# Altium integrated library TI Power Management Power Modules.IntLib: 831 symbols (part 28 of 44)
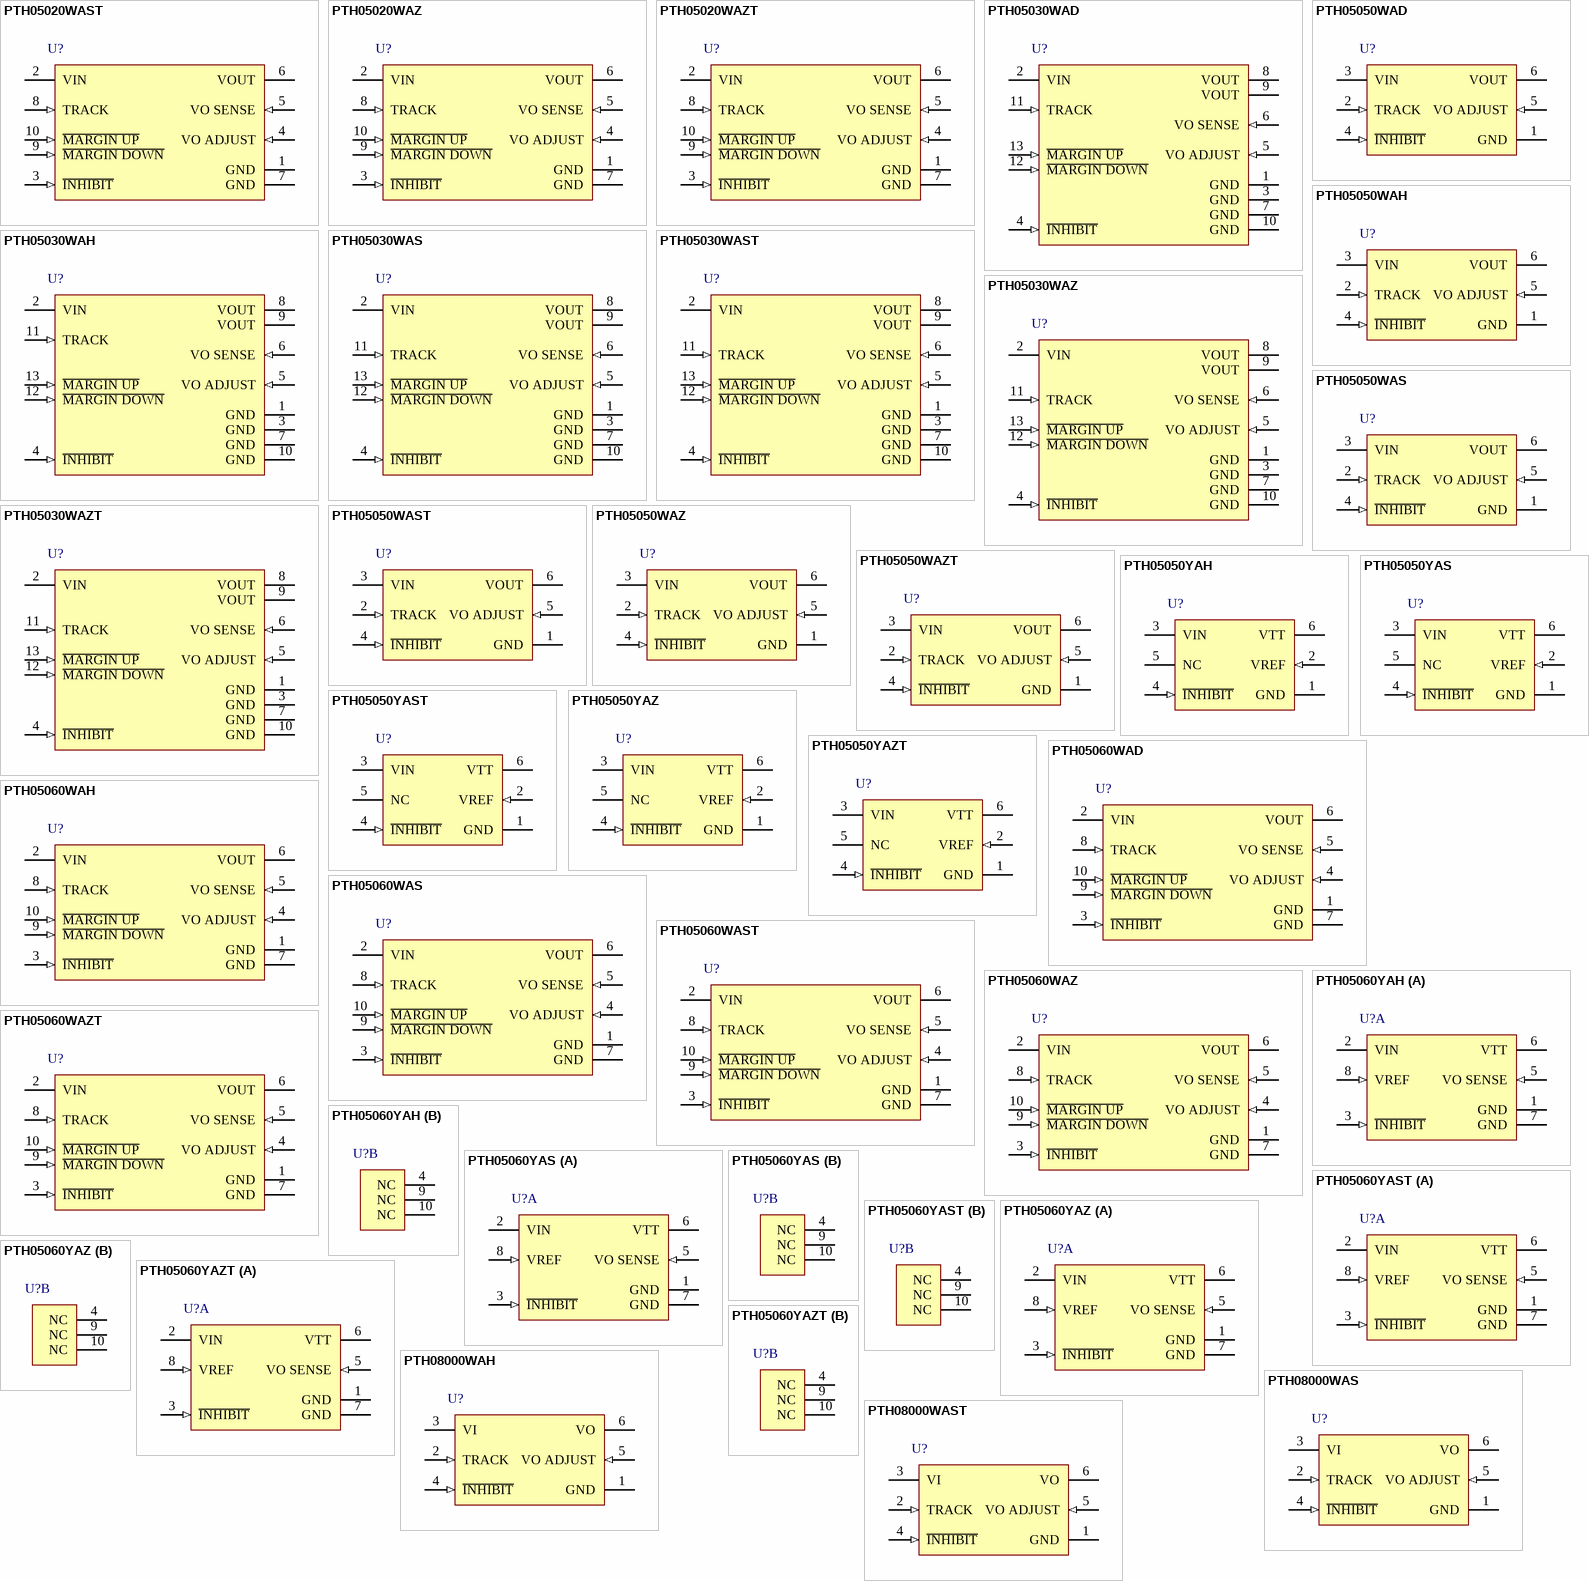
[diagram p50: symbols PTH05020WAST to PTH08000WAST]

## PTH05060WAS
designator U?
10 A, 5 V Input Non-Isolated Wide Adjust Module, -40 to 85 degC, 10-pin Module (EUY10); Manufacturer: Texas Instruments; PartNumber: PTH05060WAS; Eco-Plan: TBD; Iout(Max)(A): 10; Regulated Outputs(#): 1; SubFamily: Non-Isolated POL; Vin(Max)(V): 5.5; Vin(Min)(V): 4.5; VO Adjustable: TRUE; Vout(Max)(V): 3.6; Vout(Min)(V): 0.8; DatasheetVersion: SLTS216B; PackageVersion: 4205249-3/B; PackageReference: EUY10; PackageDescription: 10-Pin Plastic Special Shape, Body 15.75 x 25.27 mm; Supplier 1: Digi-Key; Supplier Part Number 1: 296-20421-ND; Supplier 2: Newark; Supplier Part Number 2: 90H3325; Supplier 3: Mouser; Supplier Part Number 3: 595-PTH05060WAS; Mounting Technology: Surface Mount; ComponentLink1Description: Manufacturer URL; ComponentLink1URL: http://www.ti.com/; ComponentLink2Description: Datasheet; ComponentLink2URL: http://www.ti.com/general/docs/lit/getliterature.tsp?genericPartNumber=PTH05060W&fileType=pdf; ComponentLink3Description: Package Specification; ComponentLink3URL: http://www.ti.com/lit/ml/mpds145a/mpds145a.pdf; ComponentLink4Description: URL Link1; ComponentLink4URL: Samples URL:http://www.ti.com/product/pth05060w#samples
footprint TI-EUY10_V (Module, 10-Leads, Body 25.27x15.75mm)
pins: 1 GND (power) "This is the common ground connection for the Vin and Vout power connections. It is also the 0 VDC reference for the control inputs", 2 VIN (power) "The positive input voltage power node to the module, which is referenced to common GND.", 3 ~{INHIBIT} (in) "The Inhibit pin is an open-collector/drain negative logic input that is referenced to GND. Applying a lowlevel ground signal to this input disables the module’s output and turns off the output voltage. When the Inhibit (See Datasheet)", 4 VO ADJUST (in) "A 0.1 W 1 % resistor must be directly connected between this pin and pin 7 (GND) to set the output voltage to a value higher than 0.8 V. The temperature stability of the resistor should be 100 ppm/degreesC (or better). The (See Datasheet)", 5 VO SENSE (in) "The sense input allows the regulation circuit to compensate for voltage drop between the module and the load. For optimal voltage accuracy Vo Sense should be connected to Vout. It can also be left disconnected.", 6 VOUT (power) "The regulated positive power output with respect to the GND node.", 7 GND (power) "This is the common ground connection for the Vin and Vout power connections. It is also the 0 VDC reference for the control inputs.", 8 TRACK (in) "This is an analog control input that enables the output voltage to follow an external voltage. This pin becomes active typically 20 ms after the input voltage has been applied, and allows direct control of the output voltage (See Datasheet)", 9 ~{MARGIN DOWN} (in) "When this input is asserted to GND, the output voltage is decreased by 5% from the nominal. The input requires an open-collector (open-drain) interface. It is not TTL compatible. A lower percent change can be accomodated (See Datasheet)", 10 ~{MARGIN UP} (in) "When this input is asserted to GND, the output voltage is increased by 5%. The input requires an open-collector (open-drain) interface. It is not TTL compatible. The percent change can be reduced with a series resistor. For (See Datasheet)"

## PTH05060WAST
designator U?
10 A, 5 V Input Non-Isolated Wide Adjust Module, -40 to 85 degC, 10-pin Module (EUY10); Manufacturer: Texas Instruments; PartNumber: PTH05060WAST; Eco-Plan: TBD; Iout(Max)(A): 10; Regulated Outputs(#): 1; SubFamily: Non-Isolated POL; Vin(Max)(V): 5.5; Vin(Min)(V): 4.5; VO Adjustable: TRUE; Vout(Max)(V): 3.6; Vout(Min)(V): 0.8; DatasheetVersion: SLTS216B; PackageVersion: 4205249-3/B; PackageReference: EUY10; PackageDescription: 10-Pin Plastic Special Shape, Body 15.75 x 25.27 mm; Supplier 1: Digi-Key; Supplier Part Number 1: PTH05060WAST-ND; Supplier 2: Newark; Supplier Part Number 2: 01J0641; Supplier 3: Mouser; Supplier Part Number 3: 595-PTH05060WAST; Mounting Technology: Surface Mount; ComponentLink1Description: Manufacturer URL; ComponentLink1URL: http://www.ti.com/; ComponentLink2Description: Datasheet; ComponentLink2URL: http://www.ti.com/general/docs/lit/getliterature.tsp?genericPartNumber=PTH05060W&fileType=pdf; ComponentLink3Description: Package Specification; ComponentLink3URL: http://www.ti.com/lit/ml/mpds145a/mpds145a.pdf; ComponentLink4Description: URL Link1; ComponentLink4URL: Samples URL:http://www.ti.com/product/pth05060w#samples
footprint TI-EUY10_V (Module, 10-Leads, Body 25.27x15.75mm)
pins: 1 GND (power) "This is the common ground connection for the Vin and Vout power connections. It is also the 0 VDC reference for the control inputs", 2 VIN (power) "The positive input voltage power node to the module, which is referenced to common GND.", 3 ~{INHIBIT} (in) "The Inhibit pin is an open-collector/drain negative logic input that is referenced to GND. Applying a lowlevel ground signal to this input disables the module’s output and turns off the output voltage. When the Inhibit (See Datasheet)", 4 VO ADJUST (in) "A 0.1 W 1 % resistor must be directly connected between this pin and pin 7 (GND) to set the output voltage to a value higher than 0.8 V. The temperature stability of the resistor should be 100 ppm/degreesC (or better). The (See Datasheet)", 5 VO SENSE (in) "The sense input allows the regulation circuit to compensate for voltage drop between the module and the load. For optimal voltage accuracy Vo Sense should be connected to Vout. It can also be left disconnected.", 6 VOUT (power) "The regulated positive power output with respect to the GND node.", 7 GND (power) "This is the common ground connection for the Vin and Vout power connections. It is also the 0 VDC reference for the control inputs.", 8 TRACK (in) "This is an analog control input that enables the output voltage to follow an external voltage. This pin becomes active typically 20 ms after the input voltage has been applied, and allows direct control of the output voltage (See Datasheet)", 9 ~{MARGIN DOWN} (in) "When this input is asserted to GND, the output voltage is decreased by 5% from the nominal. The input requires an open-collector (open-drain) interface. It is not TTL compatible. A lower percent change can be accomodated (See Datasheet)", 10 ~{MARGIN UP} (in) "When this input is asserted to GND, the output voltage is increased by 5%. The input requires an open-collector (open-drain) interface. It is not TTL compatible. The percent change can be reduced with a series resistor. For (See Datasheet)"

## PTH05060WAZ
designator U?
10 A, 5 V Input Non-Isolated Wide Adjust Module, -40 to 85 degC, 10-pin Module (EUY10), Pb-Free (RoHS); Manufacturer: Texas Instruments; PartNumber: PTH05060WAZ; Iout(Max)(A): 10; Regulated Outputs(#): 1; SubFamily: Non-Isolated POL; Vin(Max)(V): 5.5; Vin(Min)(V): 4.5; VO Adjustable: TRUE; Vout(Max)(V): 3.6; Vout(Min)(V): 0.8; DatasheetVersion: SLTS216B; PackageVersion: 4205249-3/B; PackageReference: EUY10; PackageDescription: 10-Pin Plastic Special Shape, Body 15.75 x 25.27 mm; Supplier 1: Digi-Key; Supplier Part Number 1: 296-20422-ND; Supplier 2: Farnell; Supplier Part Number 2: 1103289; Supplier 3: Newark; Supplier Part Number 3: 37K0728; Supplier 4: Mouser; Supplier Part Number 4: 595-PTH05060WAZ; Eco-Plan: Pb-Free (RoHS); Mounting Technology: Surface Mount; ComponentLink1Description: Manufacturer URL; ComponentLink1URL: http://www.ti.com/; ComponentLink2Description: Datasheet; ComponentLink2URL: http://www.ti.com/general/docs/lit/getliterature.tsp?genericPartNumber=PTH05060W&fileType=pdf; ComponentLink3Description: Package Specification; ComponentLink3URL: http://www.ti.com/lit/ml/mpds145a/mpds145a.pdf; ComponentLink4Description: URL Link1; ComponentLink4URL: Samples URL:http://www.ti.com/product/pth05060w#samples
footprint TI-EUY10_V (Module, 10-Leads, Body 25.27x15.75mm)
pins: 1 GND (power) "This is the common ground connection for the Vin and Vout power connections. It is also the 0 VDC reference for the control inputs", 2 VIN (power) "The positive input voltage power node to the module, which is referenced to common GND.", 3 ~{INHIBIT} (in) "The Inhibit pin is an open-collector/drain negative logic input that is referenced to GND. Applying a lowlevel ground signal to this input disables the module’s output and turns off the output voltage. When the Inhibit (See Datasheet)", 4 VO ADJUST (in) "A 0.1 W 1 % resistor must be directly connected between this pin and pin 7 (GND) to set the output voltage to a value higher than 0.8 V. The temperature stability of the resistor should be 100 ppm/degreesC (or better). The (See Datasheet)", 5 VO SENSE (in) "The sense input allows the regulation circuit to compensate for voltage drop between the module and the load. For optimal voltage accuracy Vo Sense should be connected to Vout. It can also be left disconnected.", 6 VOUT (power) "The regulated positive power output with respect to the GND node.", 7 GND (power) "This is the common ground connection for the Vin and Vout power connections. It is also the 0 VDC reference for the control inputs.", 8 TRACK (in) "This is an analog control input that enables the output voltage to follow an external voltage. This pin becomes active typically 20 ms after the input voltage has been applied, and allows direct control of the output voltage (See Datasheet)", 9 ~{MARGIN DOWN} (in) "When this input is asserted to GND, the output voltage is decreased by 5% from the nominal. The input requires an open-collector (open-drain) interface. It is not TTL compatible. A lower percent change can be accomodated (See Datasheet)", 10 ~{MARGIN UP} (in) "When this input is asserted to GND, the output voltage is increased by 5%. The input requires an open-collector (open-drain) interface. It is not TTL compatible. The percent change can be reduced with a series resistor. For (See Datasheet)"

## PTH05060WAZT
designator U?
10 A, 5 V Input Non-Isolated Wide Adjust Module, -40 to 85 degC, 10-pin Module (EUY10), Pb-Free (RoHS); Manufacturer: Texas Instruments; PartNumber: PTH05060WAZT; Iout(Max)(A): 10; Regulated Outputs(#): 1; SubFamily: Non-Isolated POL; Vin(Max)(V): 5.5; Vin(Min)(V): 4.5; VO Adjustable: TRUE; Vout(Max)(V): 3.6; Vout(Min)(V): 0.8; DatasheetVersion: SLTS216B; PackageVersion: 4205249-3/B; PackageReference: EUY10; PackageDescription: 10-Pin Plastic Special Shape, Body 15.75 x 25.27 mm; Supplier 1: Digi-Key; Supplier Part Number 1: PTH05060WAZT-ND; Supplier 2: Newark; Supplier Part Number 2: 37K0729; Supplier 3: Mouser; Supplier Part Number 3: 595-PTH05060WAZT; Eco-Plan: Pb-Free (RoHS); Mounting Technology: Surface Mount; ComponentLink1Description: Manufacturer URL; ComponentLink1URL: http://www.ti.com/; ComponentLink2Description: Datasheet; ComponentLink2URL: http://www.ti.com/general/docs/lit/getliterature.tsp?genericPartNumber=PTH05060W&fileType=pdf; ComponentLink3Description: Package Specification; ComponentLink3URL: http://www.ti.com/lit/ml/mpds145a/mpds145a.pdf; ComponentLink4Description: URL Link1; ComponentLink4URL: Samples URL:http://www.ti.com/product/pth05060w#samples
footprint TI-EUY10_V (Module, 10-Leads, Body 25.27x15.75mm)
pins: 1 GND (power) "This is the common ground connection for the Vin and Vout power connections. It is also the 0 VDC reference for the control inputs", 2 VIN (power) "The positive input voltage power node to the module, which is referenced to common GND.", 3 ~{INHIBIT} (in) "The Inhibit pin is an open-collector/drain negative logic input that is referenced to GND. Applying a lowlevel ground signal to this input disables the module’s output and turns off the output voltage. When the Inhibit (See Datasheet)", 4 VO ADJUST (in) "A 0.1 W 1 % resistor must be directly connected between this pin and pin 7 (GND) to set the output voltage to a value higher than 0.8 V. The temperature stability of the resistor should be 100 ppm/degreesC (or better). The (See Datasheet)", 5 VO SENSE (in) "The sense input allows the regulation circuit to compensate for voltage drop between the module and the load. For optimal voltage accuracy Vo Sense should be connected to Vout. It can also be left disconnected.", 6 VOUT (power) "The regulated positive power output with respect to the GND node.", 7 GND (power) "This is the common ground connection for the Vin and Vout power connections. It is also the 0 VDC reference for the control inputs.", 8 TRACK (in) "This is an analog control input that enables the output voltage to follow an external voltage. This pin becomes active typically 20 ms after the input voltage has been applied, and allows direct control of the output voltage (See Datasheet)", 9 ~{MARGIN DOWN} (in) "When this input is asserted to GND, the output voltage is decreased by 5% from the nominal. The input requires an open-collector (open-drain) interface. It is not TTL compatible. A lower percent change can be accomodated (See Datasheet)", 10 ~{MARGIN UP} (in) "When this input is asserted to GND, the output voltage is increased by 5%. The input requires an open-collector (open-drain) interface. It is not TTL compatible. The percent change can be reduced with a series resistor. For (See Datasheet)"

## PTH05060YAH
designator U?
10 A, 5 V Input Bus Termination Power Module for DDR / QDR Memory, -40 to 85 degC, 10-pin Module (EUW10), Pb-Free (RoHS); Manufacturer: Texas Instruments; PartNumber: PTH05060YAH; Iout(Max)(A): 10; Regulated Outputs(#): 1; SubFamily: Non-Isolated POL; Vin(Max)(V): 5.5; Vin(Min)(V): 4.5; Vout(Max)(V): 1.8; Vout(Min)(V): 0.55; DatasheetVersion: SLTS222A; PackageVersion: 4205248-3/B; PackageReference: EUW10; PackageDescription: 10-Pin Plastic Special Shape, Body 15.75 x 25.27 mm; Supplier 1: Digi-Key; Supplier Part Number 1: 296-20423-ND; Supplier 2: Newark; Supplier Part Number 2: 01J0642; Supplier 3: Mouser; Supplier Part Number 3: 595-PTH05060YAH; Eco-Plan: Pb-Free (RoHS); Mounting Technology: Through Hole; ComponentLink1Description: Manufacturer URL; ComponentLink1URL: http://www.ti.com/; ComponentLink2Description: Datasheet; ComponentLink2URL: http://www.ti.com/general/docs/lit/getliterature.tsp?genericPartNumber=PTH05060Y&fileType=pdf; ComponentLink3Description: Package Specification; ComponentLink3URL: http://www.ti.com/litv/pdf/mpds144a; ComponentLink4Description: URL Link1; ComponentLink4URL: Samples URL:http://www.ti.com/product/pth05060y#samples
footprint TI-EUW10_V (Module, 10-Leads, Body 25.27x15.75mm)
part A pins: 1 GND (power) "This is the common ground connection for the VIN and VTT power connections. It is also the 0-VDC reference for the control inputs.", 2 VIN (power) "The positive input voltage power node to the module, which is referenced to common GND.", 3 ~{INHIBIT} (in) "The Inhibit pin is an open-collector/drain negative logic input that is referenced to GND. Applying a low-level ground signal to this input turns off the output voltage, VTT. Although the module is inhibited, a voltage, VDDQ (See Datasheet)", 5 VO SENSE (in) "The sense input allows the regulation circuit to compensate for voltage drop between the module and the load. For optimal voltage accuracy Vo Sense should be connected to VTT.", 6 VTT (power) "This is the regulated power output from the module with respect to the GND node, and the tracking termination supply for the application data and address buses. It is precisely regulated to the voltage applied to the (See Datasheet)", 7 GND (power) "This is the common ground connection for the VIN and VTT power connections. It is also the 0-VDC reference for the control inputs.", 8 VREF (in) "The module senses the voltage at this input to regulate the output voltage, VTT. The voltage at VREF is also the reference voltage for the system bus receiver comparators. It is normally set to precisely half the bus driver (See Datasheet)"
part B pins: 4 NC "No connect", 9 NC "No connect", 10 NC "No connect"

## PTH05060YAS
designator U?
10 A, 5 V Input Bus Termination Power Module for DDR / QDR Memory, -40 to 85 degC, 10-pin Module (EUY10); Manufacturer: Texas Instruments; PartNumber: PTH05060YAS; Eco-Plan: TBD; Iout(Max)(A): 10; Regulated Outputs(#): 1; SubFamily: Non-Isolated POL; Vin(Max)(V): 5.5; Vin(Min)(V): 4.5; Vout(Max)(V): 1.8; Vout(Min)(V): 0.55; DatasheetVersion: SLTS222A; PackageVersion: 4205249-3/B; PackageReference: EUY10; PackageDescription: 10-Pin Plastic Special Shape, Body 15.75 x 25.27 mm; Supplier 1: Digi-Key; Supplier Part Number 1: 296-20424-ND; Supplier 2: Newark; Supplier Part Number 2: 01J0643; Supplier 3: Mouser; Supplier Part Number 3: 595-PTH05060YAS; Mounting Technology: Surface Mount; ComponentLink1Description: Manufacturer URL; ComponentLink1URL: http://www.ti.com/; ComponentLink2Description: Datasheet; ComponentLink2URL: http://www.ti.com/general/docs/lit/getliterature.tsp?genericPartNumber=PTH05060Y&fileType=pdf; ComponentLink3Description: Package Specification; ComponentLink3URL: http://www.ti.com/lit/ml/mpds145a/mpds145a.pdf; ComponentLink4Description: URL Link1; ComponentLink4URL: Samples URL:http://www.ti.com/product/pth05060y#samples
footprint TI-EUY10_V (Module, 10-Leads, Body 25.27x15.75mm)
part A pins: 1 GND (power) "This is the common ground connection for the VIN and VTT power connections. It is also the 0-VDC reference for the control inputs.", 2 VIN (power) "The positive input voltage power node to the module, which is referenced to common GND.", 3 ~{INHIBIT} (in) "The Inhibit pin is an open-collector/drain negative logic input that is referenced to GND. Applying a low-level ground signal to this input turns off the output voltage, VTT. Although the module is inhibited, a voltage, VDDQ (See Datasheet)", 5 VO SENSE (in) "The sense input allows the regulation circuit to compensate for voltage drop between the module and the load. For optimal voltage accuracy Vo Sense should be connected to VTT.", 6 VTT (power) "This is the regulated power output from the module with respect to the GND node, and the tracking termination supply for the application data and address buses. It is precisely regulated to the voltage applied to the (See Datasheet)", 7 GND (power) "This is the common ground connection for the VIN and VTT power connections. It is also the 0-VDC reference for the control inputs.", 8 VREF (in) "The module senses the voltage at this input to regulate the output voltage, VTT. The voltage at VREF is also the reference voltage for the system bus receiver comparators. It is normally set to precisely half the bus driver (See Datasheet)"
part B pins: 4 NC "No connect", 9 NC "No connect", 10 NC "No connect"

## PTH05060YAST
designator U?
10 A, 5 V Input Bus Termination Power Module for DDR / QDR Memory, -40 to 85 degC, 10-pin Module (EUY10); Manufacturer: Texas Instruments; PartNumber: PTH05060YAST; Eco-Plan: TBD; Iout(Max)(A): 10; Regulated Outputs(#): 1; SubFamily: Non-Isolated POL; Vin(Max)(V): 5.5; Vin(Min)(V): 4.5; Vout(Max)(V): 1.8; Vout(Min)(V): 0.55; DatasheetVersion: SLTS222A; PackageVersion: 4205249-3/B; PackageReference: EUY10; PackageDescription: 10-Pin Plastic Special Shape, Body 15.75 x 25.27 mm; Supplier 1: Digi-Key; Supplier Part Number 1: PTH05060YAST-ND; Supplier 2: Newark; Supplier Part Number 2: 01J0644; Supplier 3: Mouser; Supplier Part Number 3: 595-PTH05060YAST; Mounting Technology: Surface Mount; ComponentLink1Description: Manufacturer URL; ComponentLink1URL: http://www.ti.com/; ComponentLink2Description: Datasheet; ComponentLink2URL: http://www.ti.com/general/docs/lit/getliterature.tsp?genericPartNumber=PTH05060Y&fileType=pdf; ComponentLink3Description: Package Specification; ComponentLink3URL: http://www.ti.com/lit/ml/mpds145a/mpds145a.pdf; ComponentLink4Description: URL Link1; ComponentLink4URL: Samples URL:http://www.ti.com/product/pth05060y#samples
footprint TI-EUY10_V (Module, 10-Leads, Body 25.27x15.75mm)
part A pins: 1 GND (power) "This is the common ground connection for the VIN and VTT power connections. It is also the 0-VDC reference for the control inputs.", 2 VIN (power) "The positive input voltage power node to the module, which is referenced to common GND.", 3 ~{INHIBIT} (in) "The Inhibit pin is an open-collector/drain negative logic input that is referenced to GND. Applying a low-level ground signal to this input turns off the output voltage, VTT. Although the module is inhibited, a voltage, VDDQ (See Datasheet)", 5 VO SENSE (in) "The sense input allows the regulation circuit to compensate for voltage drop between the module and the load. For optimal voltage accuracy Vo Sense should be connected to VTT.", 6 VTT (power) "This is the regulated power output from the module with respect to the GND node, and the tracking termination supply for the application data and address buses. It is precisely regulated to the voltage applied to the (See Datasheet)", 7 GND (power) "This is the common ground connection for the VIN and VTT power connections. It is also the 0-VDC reference for the control inputs.", 8 VREF (in) "The module senses the voltage at this input to regulate the output voltage, VTT. The voltage at VREF is also the reference voltage for the system bus receiver comparators. It is normally set to precisely half the bus driver (See Datasheet)"
part B pins: 4 NC "No connect", 9 NC "No connect", 10 NC "No connect"

## PTH05060YAZ
designator U?
10 A, 5 V Input Bus Termination Power Module for DDR / QDR Memory, -40 to 85 degC, 10-pin Module (EUY10), Pb-Free (RoHS); Manufacturer: Texas Instruments; PartNumber: PTH05060YAZ; Iout(Max)(A): 10; Regulated Outputs(#): 1; SubFamily: Non-Isolated POL; Vin(Max)(V): 5.5; Vin(Min)(V): 4.5; Vout(Max)(V): 1.8; Vout(Min)(V): 0.55; DatasheetVersion: SLTS222A; PackageVersion: 4205249-3/B; PackageReference: EUY10; PackageDescription: 10-Pin Plastic Special Shape, Body 15.75 x 25.27 mm; Supplier 1: Digi-Key; Supplier Part Number 1: PTH05060YAZ-ND; Supplier 2: Newark; Supplier Part Number 2: 58K6008; Supplier 3: Mouser; Supplier Part Number 3: 595-PTH05060YAZ; Eco-Plan: Pb-Free (RoHS); Mounting Technology: Surface Mount; ComponentLink1Description: Manufacturer URL; ComponentLink1URL: http://www.ti.com/; ComponentLink2Description: Datasheet; ComponentLink2URL: http://www.ti.com/general/docs/lit/getliterature.tsp?genericPartNumber=PTH05060Y&fileType=pdf; ComponentLink3Description: Package Specification; ComponentLink3URL: http://www.ti.com/lit/ml/mpds145a/mpds145a.pdf; ComponentLink4Description: URL Link1; ComponentLink4URL: Samples URL:http://www.ti.com/product/pth05060y#samples
footprint TI-EUY10_V (Module, 10-Leads, Body 25.27x15.75mm)
part A pins: 1 GND (power) "This is the common ground connection for the VIN and VTT power connections. It is also the 0-VDC reference for the control inputs.", 2 VIN (power) "The positive input voltage power node to the module, which is referenced to common GND.", 3 ~{INHIBIT} (in) "The Inhibit pin is an open-collector/drain negative logic input that is referenced to GND. Applying a low-level ground signal to this input turns off the output voltage, VTT. Although the module is inhibited, a voltage, VDDQ (See Datasheet)", 5 VO SENSE (in) "The sense input allows the regulation circuit to compensate for voltage drop between the module and the load. For optimal voltage accuracy Vo Sense should be connected to VTT.", 6 VTT (power) "This is the regulated power output from the module with respect to the GND node, and the tracking termination supply for the application data and address buses. It is precisely regulated to the voltage applied to the (See Datasheet)", 7 GND (power) "This is the common ground connection for the VIN and VTT power connections. It is also the 0-VDC reference for the control inputs.", 8 VREF (in) "The module senses the voltage at this input to regulate the output voltage, VTT. The voltage at VREF is also the reference voltage for the system bus receiver comparators. It is normally set to precisely half the bus driver (See Datasheet)"
part B pins: 4 NC "No connect", 9 NC "No connect", 10 NC "No connect"

## PTH05060YAZT
designator U?
10 A, 5 V Input Bus Termination Power Module for DDR / QDR Memory, -40 to 85 degC, 10-pin Module (EUY10), Pb-Free (RoHS); Manufacturer: Texas Instruments; PartNumber: PTH05060YAZT; Iout(Max)(A): 10; Regulated Outputs(#): 1; SubFamily: Non-Isolated POL; Vin(Max)(V): 5.5; Vin(Min)(V): 4.5; Vout(Max)(V): 1.8; Vout(Min)(V): 0.55; DatasheetVersion: SLTS222A; PackageVersion: 4205249-3/B; PackageReference: EUY10; PackageDescription: 10-Pin Plastic Special Shape, Body 15.75 x 25.27 mm; Supplier 1: Digi-Key; Supplier Part Number 1: PTH05060YAZT-ND; Supplier 2: Mouser; Supplier Part Number 2: 595-PTH05060YAZT; Eco-Plan: Pb-Free (RoHS); Mounting Technology: Surface Mount; ComponentLink1Description: Manufacturer URL; ComponentLink1URL: http://www.ti.com/; ComponentLink2Description: Datasheet; ComponentLink2URL: http://www.ti.com/general/docs/lit/getliterature.tsp?genericPartNumber=PTH05060Y&fileType=pdf; ComponentLink3Description: Package Specification; ComponentLink3URL: http://www.ti.com/lit/ml/mpds145a/mpds145a.pdf; ComponentLink4Description: URL Link1; ComponentLink4URL: Samples URL:http://www.ti.com/product/tps55010#samples
footprint TI-EUY10_V (Module, 10-Leads, Body 25.27x15.75mm)
part A pins: 1 GND (power) "This is the common ground connection for the VIN and VTT power connections. It is also the 0-VDC reference for the control inputs.", 2 VIN (power) "The positive input voltage power node to the module, which is referenced to common GND.", 3 ~{INHIBIT} (in) "The Inhibit pin is an open-collector/drain negative logic input that is referenced to GND. Applying a low-level ground signal to this input turns off the output voltage, VTT. Although the module is inhibited, a voltage, VDDQ (See Datasheet)", 5 VO SENSE (in) "The sense input allows the regulation circuit to compensate for voltage drop between the module and the load. For optimal voltage accuracy Vo Sense should be connected to VTT.", 6 VTT (power) "This is the regulated power output from the module with respect to the GND node, and the tracking termination supply for the application data and address buses. It is precisely regulated to the voltage applied to the (See Datasheet)", 7 GND (power) "This is the common ground connection for the VIN and VTT power connections. It is also the 0-VDC reference for the control inputs.", 8 VREF (in) "The module senses the voltage at this input to regulate the output voltage, VTT. The voltage at VREF is also the reference voltage for the system bus receiver comparators. It is normally set to precisely half the bus driver (See Datasheet)"
part B pins: 4 NC "No connect", 9 NC "No connect", 10 NC "No connect"

## PTH08000WAH
designator U?
2.25 A, 5 / 12 V Input, Non-Isolated Wide Adjust Module with Auto-Track, -40 to 85 degC, 6-pin Module (EUS6), Pb-Free (RoHS); Manufacturer: Texas Instruments; PartNumber: PTH08000WAH; Iout(Max)(A): 2.25; Regulated Outputs(#): 1; SubFamily: Non-Isolated POL; Vin(Max)(V): 14; Vin(Min)(V): 4.5; VO Adjustable: TRUE; Vout(Max)(V): 5.5; Vout(Min)(V): 0.9; DatasheetVersion: SLTS248B; PackageVersion: 4204990-3/C; PackageReference: EUS6; PackageDescription: 6-Pin Plastic Special Shape, Body 12.57 x 18.92 mm; Supplier 1: Digi-Key; Supplier Part Number 1: 296-20429-ND; Supplier 2: Newark; Supplier Part Number 2: 43K4062; Supplier 3: Mouser; Supplier Part Number 3: 595-PTH08000WAH; Eco-Plan: Pb-Free (RoHS); Mounting Technology: Through Hole; ComponentLink1Description: Manufacturer URL; ComponentLink1URL: http://www.ti.com/; ComponentLink2Description: Datasheet; ComponentLink2URL: http://www.ti.com/general/docs/lit/getliterature.tsp?genericPartNumber=PTH08000W&fileType=pdf; ComponentLink3Description: Package Specification; ComponentLink3URL: http://www.ti.com/litv/pdf/mpds213; ComponentLink4Description: URL Link1; ComponentLink4URL: Samples URL:http://www.ti.com/product/pth08000w#samples
footprint TI-EUS6_V (Module, 6-Leads, Body 18.92x12.57mm)
pins: 1 GND (power) "This is the common ground connection for the VI and VO power connections. It is also the 0-VDC reference for the Inhibit , VO Adjust, and Track control inputs.", 2 TRACK (in) "This is an analog control input that enables the output voltage to follow an external voltage. This pin becomes active typically 20 ms after the input voltage has been applied, and allows direct control of the output voltage (See Datasheet)", 3 VI (power) "The positive input voltage power node to the module, which is referenced to common GND.", 4 ~{INHIBIT} (in) "The Inhibit pin is an open-collector/drain-negative logic input that is referenced to GND. Applying a low-level ground signal to this input disables the module's output. When the Inhibit control is active, the input current (See Datasheet)", 5 VO ADJUST (in) "A 1% resistor must be connected between this pin and GND (pin 1) to set the output voltage of the module higher than 0.9 V. If left open-circuit, the output voltage defaults to this value. The temperature stability of the (See Datasheet)", 6 VO (power) "The regulated positive power output with respect to the GND node."

## PTH08000WAS
designator U?
2.25 A, 5 / 12 V Input, Non-Isolated Wide Adjust Module with Auto-Track, -40 to 85 degC, 6-pin Module (EUT6); Manufacturer: Texas Instruments; PartNumber: PTH08000WAS; Eco-Plan: TBD; Iout(Max)(A): 2.25; Regulated Outputs(#): 1; SubFamily: Non-Isolated POL; Vin(Max)(V): 14; Vin(Min)(V): 4.5; VO Adjustable: TRUE; Vout(Max)(V): 5.5; Vout(Min)(V): 0.9; DatasheetVersion: SLTS248B; PackageVersion: 4204991-3/C; PackageReference: EUT6; PackageDescription: 6-Pin Plastic Special Shape, Body 12.57 x 18.92 mm; Supplier 1: Digi-Key; Supplier Part Number 1: 296-20430-ND; Supplier 2: Newark; Supplier Part Number 2: 43K4063; Supplier 3: Mouser; Supplier Part Number 3: 595-PTH08000WAS; Mounting Technology: Surface Mount; ComponentLink1Description: Manufacturer URL; ComponentLink1URL: http://www.ti.com/; ComponentLink2Description: Datasheet; ComponentLink2URL: http://www.ti.com/general/docs/lit/getliterature.tsp?genericPartNumber=PTH08000W&fileType=pdf; ComponentLink3Description: Package Specification; ComponentLink3URL: http://www.ti.com/lit/ml/mpds214/mpds214.pdf; ComponentLink4Description: URL Link1; ComponentLink4URL: Samples URL:http://www.ti.com/product/pth08000w#samples
footprint TI-EUT6_V (Module, 6-Leads, Body 18.92x12.57mm)
pins: 1 GND (power) "This is the common ground connection for the VI and VO power connections. It is also the 0-VDC reference for the Inhibit , VO Adjust, and Track control inputs.", 2 TRACK (in) "This is an analog control input that enables the output voltage to follow an external voltage. This pin becomes active typically 20 ms after the input voltage has been applied, and allows direct control of the output voltage (See Datasheet)", 3 VI (power) "The positive input voltage power node to the module, which is referenced to common GND.", 4 ~{INHIBIT} (in) "The Inhibit pin is an open-collector/drain-negative logic input that is referenced to GND. Applying a low-level ground signal to this input disables the module's output. When the Inhibit control is active, the input current (See Datasheet)", 5 VO ADJUST (in) "A 1% resistor must be connected between this pin and GND (pin 1) to set the output voltage of the module higher than 0.9 V. If left open-circuit, the output voltage defaults to this value. The temperature stability of the (See Datasheet)", 6 VO (power) "The regulated positive power output with respect to the GND node."

## PTH08000WAST
designator U?
2.25 A, 5 / 12 V Input, Non-Isolated Wide Adjust Module with Auto-Track, -40 to 85 degC, 6-pin Module (EUT6); Manufacturer: Texas Instruments; PartNumber: PTH08000WAST; Eco-Plan: TBD; Iout(Max)(A): 2.25; Regulated Outputs(#): 1; SubFamily: Non-Isolated POL; Vin(Max)(V): 14; Vin(Min)(V): 4.5; VO Adjustable: TRUE; Vout(Max)(V): 5.5; Vout(Min)(V): 0.9; DatasheetVersion: SLTS248B; PackageVersion: 4204991-3/C; PackageReference: EUT6; PackageDescription: 6-Pin Plastic Special Shape, Body 12.57 x 18.92 mm; Supplier 1: Digi-Key; Supplier Part Number 1: PTH08000WAST-ND; Supplier 2: Newark; Supplier Part Number 2: 43K4064; Supplier 3: Mouser; Supplier Part Number 3: 595-PTH08000WAST; Mounting Technology: Surface Mount; ComponentLink1Description: Manufacturer URL; ComponentLink1URL: http://www.ti.com/; ComponentLink2Description: Datasheet; ComponentLink2URL: http://www.ti.com/general/docs/lit/getliterature.tsp?genericPartNumber=PTH08000W&fileType=pdf; ComponentLink3Description: Package Specification; ComponentLink3URL: http://www.ti.com/lit/ml/mpds214/mpds214.pdf; ComponentLink4Description: URL Link1; ComponentLink4URL: Samples URL:http://www.ti.com/product/pth08000w#samples
footprint TI-EUT6_V (Module, 6-Leads, Body 18.92x12.57mm)
pins: 1 GND (power) "This is the common ground connection for the VI and VO power connections. It is also the 0-VDC reference for the Inhibit , VO Adjust, and Track control inputs.", 2 TRACK (in) "This is an analog control input that enables the output voltage to follow an external voltage. This pin becomes active typically 20 ms after the input voltage has been applied, and allows direct control of the output voltage (See Datasheet)", 3 VI (power) "The positive input voltage power node to the module, which is referenced to common GND.", 4 ~{INHIBIT} (in) "The Inhibit pin is an open-collector/drain-negative logic input that is referenced to GND. Applying a low-level ground signal to this input disables the module's output. When the Inhibit control is active, the input current (See Datasheet)", 5 VO ADJUST (in) "A 1% resistor must be connected between this pin and GND (pin 1) to set the output voltage of the module higher than 0.9 V. If left open-circuit, the output voltage defaults to this value. The temperature stability of the (See Datasheet)", 6 VO (power) "The regulated positive power output with respect to the GND node."

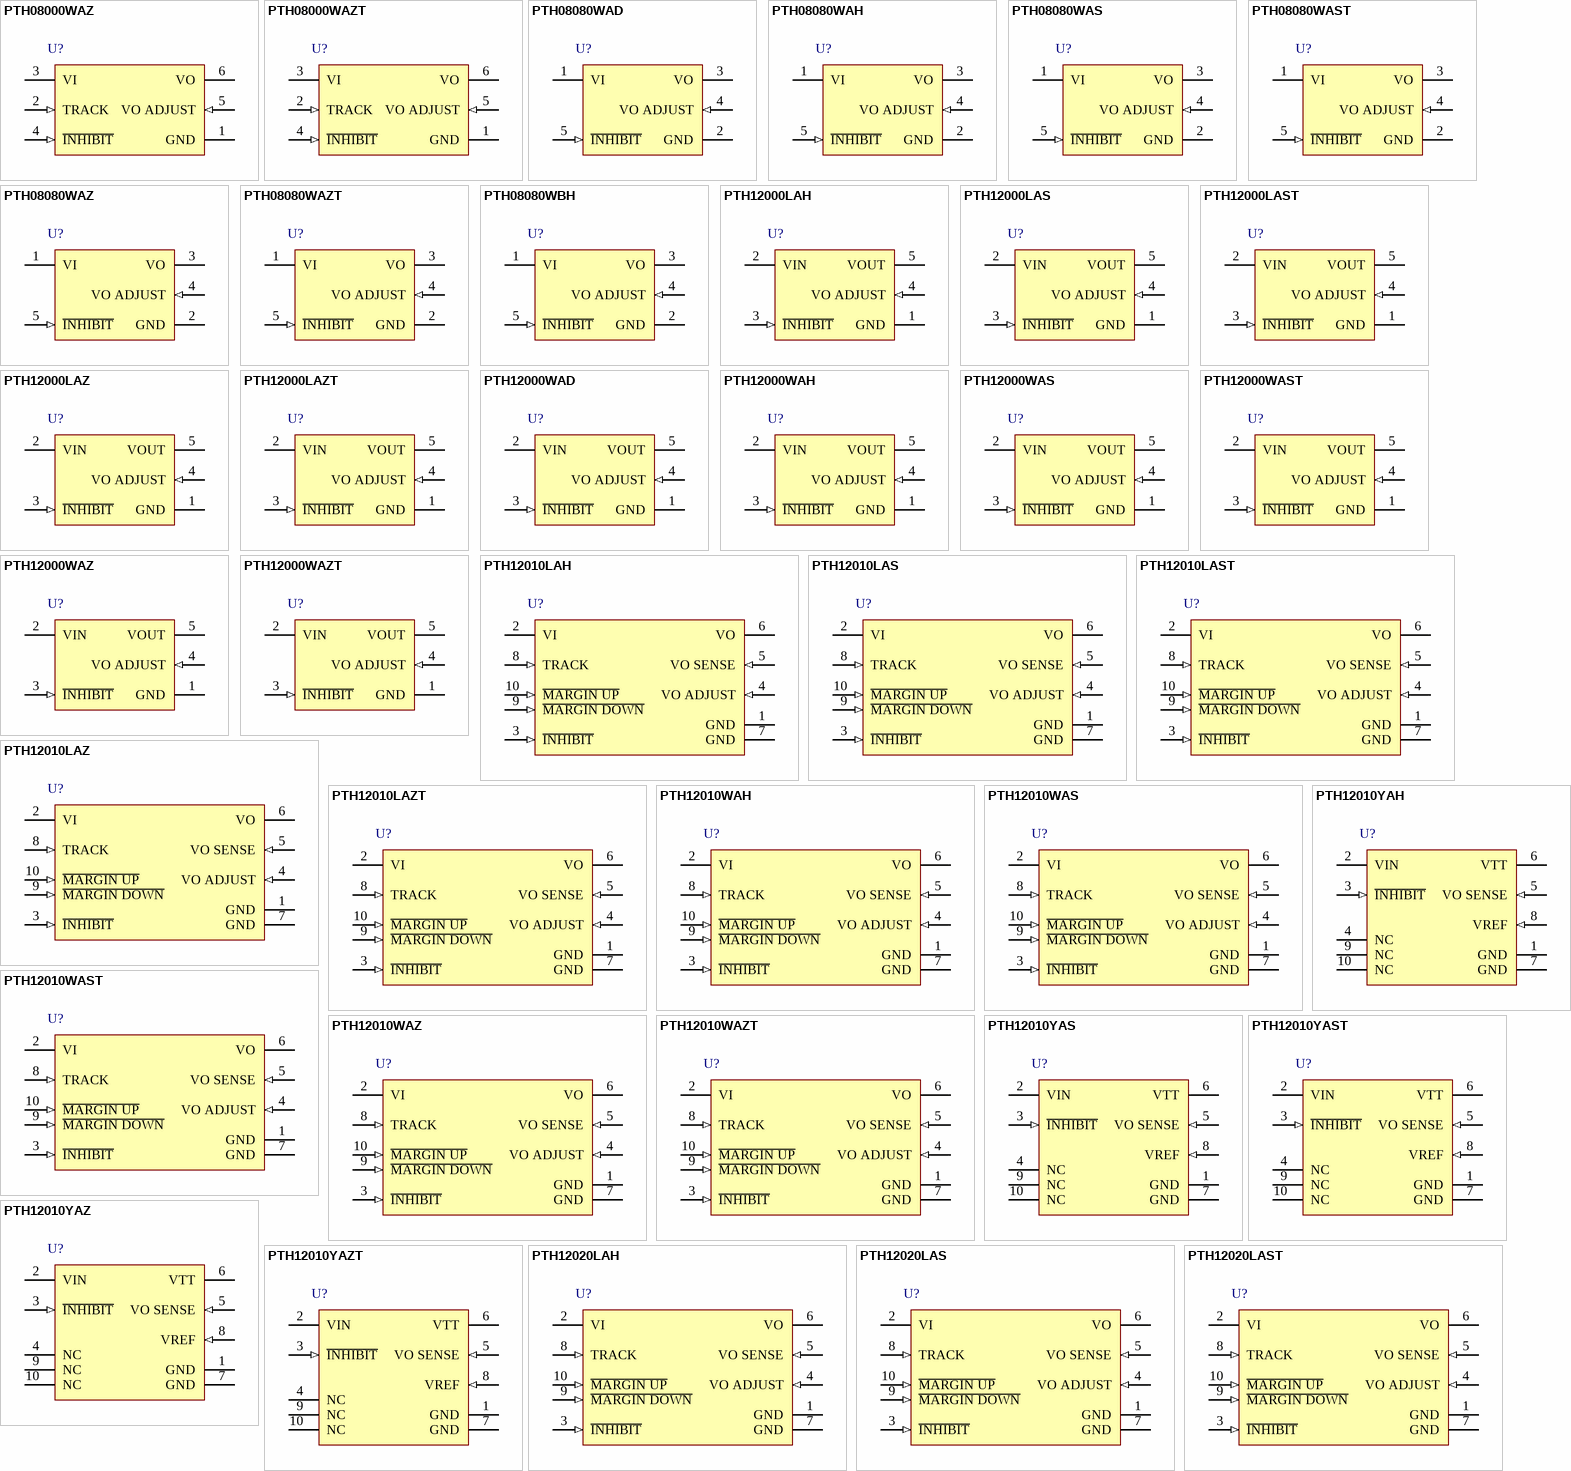
[diagram p16: symbols PTH08000WAZ to PTH12020LAST]

## PTH08000WAZ
designator U?
2.25 A, 5 / 12 V Input, Non-Isolated Wide Adjust Module with Auto-Track, -40 to 85 degC, 6-pin Module (EUT6), Pb-Free (RoHS); Manufacturer: Texas Instruments; PartNumber: PTH08000WAZ; Iout(Max)(A): 2.25; Regulated Outputs(#): 1; SubFamily: Non-Isolated POL; Vin(Max)(V): 14; Vin(Min)(V): 4.5; VO Adjustable: TRUE; Vout(Max)(V): 5.5; Vout(Min)(V): 0.9; DatasheetVersion: SLTS248B; PackageVersion: 4204991-3/C; PackageReference: EUT6; PackageDescription: 6-Pin Plastic Special Shape, Body 12.57 x 18.92 mm; Supplier 1: Digi-Key; Supplier Part Number 1: 296-20431-ND; Supplier 2: Newark; Supplier Part Number 2: 43K4065; Supplier 3: Mouser; Supplier Part Number 3: 595-PTH08000WAZ; Eco-Plan: Pb-Free (RoHS); Mounting Technology: Surface Mount; ComponentLink1Description: Manufacturer URL; ComponentLink1URL: http://www.ti.com/; ComponentLink2Description: Datasheet; ComponentLink2URL: http://www.ti.com/general/docs/lit/getliterature.tsp?genericPartNumber=PTH08000W&fileType=pdf; ComponentLink3Description: Package Specification; ComponentLink3URL: http://www.ti.com/lit/ml/mpds214/mpds214.pdf; ComponentLink4Description: URL Link1; ComponentLink4URL: Samples URL:http://www.ti.com/product/pth08000w#samples
footprint TI-EUT6_V (Module, 6-Leads, Body 18.92x12.57mm)
pins: 1 GND (power) "This is the common ground connection for the VI and VO power connections. It is also the 0-VDC reference for the Inhibit , VO Adjust, and Track control inputs.", 2 TRACK (in) "This is an analog control input that enables the output voltage to follow an external voltage. This pin becomes active typically 20 ms after the input voltage has been applied, and allows direct control of the output voltage (See Datasheet)", 3 VI (power) "The positive input voltage power node to the module, which is referenced to common GND.", 4 ~{INHIBIT} (in) "The Inhibit pin is an open-collector/drain-negative logic input that is referenced to GND. Applying a low-level ground signal to this input disables the module's output. When the Inhibit control is active, the input current (See Datasheet)", 5 VO ADJUST (in) "A 1% resistor must be connected between this pin and GND (pin 1) to set the output voltage of the module higher than 0.9 V. If left open-circuit, the output voltage defaults to this value. The temperature stability of the (See Datasheet)", 6 VO (power) "The regulated positive power output with respect to the GND node."

## PTH08000WAZT
designator U?
2.25 A, 5 / 12 V Input, Non-Isolated Wide Adjust Module with Auto-Track, -40 to 85 degC, 6-pin Module (EUT6), Pb-Free (RoHS); Manufacturer: Texas Instruments; PartNumber: PTH08000WAZT; Iout(Max)(A): 2.25; Regulated Outputs(#): 1; SubFamily: Non-Isolated POL; Vin(Max)(V): 14; Vin(Min)(V): 4.5; VO Adjustable: TRUE; Vout(Max)(V): 5.5; Vout(Min)(V): 0.9; DatasheetVersion: SLTS248B; PackageVersion: 4204991-3/C; PackageReference: EUT6; PackageDescription: 6-Pin Plastic Special Shape, Body 12.57 x 18.92 mm; Supplier 1: Digi-Key; Supplier Part Number 1: PTH08000WAZT-ND; Supplier 2: Newark; Supplier Part Number 2: 43K4066; Supplier 3: Mouser; Supplier Part Number 3: 595-PTH08000WAZT; Eco-Plan: Pb-Free (RoHS); Mounting Technology: Surface Mount; ComponentLink1Description: Manufacturer URL; ComponentLink1URL: http://www.ti.com/; ComponentLink2Description: Datasheet; ComponentLink2URL: http://www.ti.com/general/docs/lit/getliterature.tsp?genericPartNumber=PTH08000W&fileType=pdf; ComponentLink3Description: Package Specification; ComponentLink3URL: http://www.ti.com/lit/ml/mpds214/mpds214.pdf; ComponentLink4Description: URL Link1; ComponentLink4URL: Samples URL:http://www.ti.com/product/tps55010#samples
footprint TI-EUT6_V (Module, 6-Leads, Body 18.92x12.57mm)
pins: 1 GND (power) "This is the common ground connection for the VI and VO power connections. It is also the 0-VDC reference for the Inhibit , VO Adjust, and Track control inputs.", 2 TRACK (in) "This is an analog control input that enables the output voltage to follow an external voltage. This pin becomes active typically 20 ms after the input voltage has been applied, and allows direct control of the output voltage (See Datasheet)", 3 VI (power) "The positive input voltage power node to the module, which is referenced to common GND.", 4 ~{INHIBIT} (in) "The Inhibit pin is an open-collector/drain-negative logic input that is referenced to GND. Applying a low-level ground signal to this input disables the module's output. When the Inhibit control is active, the input current (See Datasheet)", 5 VO ADJUST (in) "A 1% resistor must be connected between this pin and GND (pin 1) to set the output voltage of the module higher than 0.9 V. If left open-circuit, the output voltage defaults to this value. The temperature stability of the (See Datasheet)", 6 VO (power) "The regulated positive power output with respect to the GND node."

## PTH08080WAD
designator U?
2.25 A, 4.5 to 18 V Input Wide Adjust Miniature Power Module, -40 to 85 degC, 5-pin Module (EUF5), Pb-Free (RoHS); Manufacturer: Texas Instruments; PartNumber: PTH08080WAD; Iout(Max)(A): 2.25; Regulated Outputs(#): 1; SubFamily: Non-Isolated POL; Vin(Max)(V): 18; Vin(Min)(V): 4.5; VO Adjustable: TRUE; Vout(Max)(V): 5.5; Vout(Min)(V): 0.9; DatasheetVersion: SLTS235C; PackageVersion: 4206427/A; PackageReference: EUF5; PackageDescription: 5-Pin Plastic Special Shape, Body 12.7 x 15.24 mm; Supplier 1: Digi-Key; Supplier Part Number 1: 296-32715-ND; Supplier 2: Newark; Supplier Part Number 2: 58K6010; Supplier 3: Mouser; Supplier Part Number 3: 595-PTH08080WAD; Eco-Plan: Pb-Free (RoHS); Mounting Technology: Through Hole; ComponentLink1Description: Manufacturer URL; ComponentLink1URL: http://www.ti.com/; ComponentLink2Description: Datasheet; ComponentLink2URL: http://www.ti.com/general/docs/lit/getliterature.tsp?genericPartNumber=PTH08080W&fileType=pdf; ComponentLink3Description: Package Specification; ComponentLink3URL: http://www.ti.com/lit/ml/mpds189/mpds189.pdf; ComponentLink4Description: URL Link1; ComponentLink4URL: Samples URL:http://www.ti.com/product/pth08080w#samples
footprint TI-EUF5_V (Module, 5-Leads, Body 15.24x12.7mm)
pins: 1 VI (power) "The positive input voltage power node to the module, which is referenced to common GND.", 2 GND (power) "This is the common ground connection for the VI and VO power connections. It is also the 0-Vdc reference for the Inhibit and VO Adjust control inputs.", 3 VO (power) "The regulated positive power output with respect to the GND node.", 4 VO ADJUST (in) "A 1% resistor must be connected between this pin and GND (pin 1) to set the output voltage of the module higher than 0.9 V. If left open-circuit, the output voltage defaults to this value. The temperature stability of the (See Datasheet)", 5 ~{INHIBIT} (in) "The Inhibit pin is an open-collector/drain-negative logic input that is referenced to GND. Applying a low-level ground signal to this input disables the module's output. When the Inhibit control is active, the input current (See Datasheet)"

## PTH08080WAH
designator U?
2.25 A, 4.5 to 18 V Input Wide Adjust Miniature Power Module, -40 to 85 degC, 5-pin Module (EUF5), Pb-Free (RoHS); Manufacturer: Texas Instruments; PartNumber: PTH08080WAH; Iout(Max)(A): 2.25; Regulated Outputs(#): 1; SubFamily: Non-Isolated POL; Vin(Max)(V): 18; Vin(Min)(V): 4.5; VO Adjustable: TRUE; Vout(Max)(V): 5.5; Vout(Min)(V): 0.9; DatasheetVersion: SLTS235C; PackageVersion: 4206427/A; PackageReference: EUF5; PackageDescription: 5-Pin Plastic Special Shape, Body 12.7 x 15.24 mm; Supplier 1: Digi-Key; Supplier Part Number 1: 296-20432-ND; Supplier 2: Farnell; Supplier Part Number 2: 1470502; Supplier 3: Newark; Supplier Part Number 3: 24K0569; Supplier 4: Mouser; Supplier Part Number 4: 595-PTH08080WAH; Eco-Plan: Pb-Free (RoHS); Mounting Technology: Through Hole; ComponentLink1Description: Manufacturer URL; ComponentLink1URL: http://www.ti.com/; ComponentLink2Description: Datasheet; ComponentLink2URL: http://www.ti.com/general/docs/lit/getliterature.tsp?genericPartNumber=PTH08080W&fileType=pdf; ComponentLink3Description: Package Specification; ComponentLink3URL: http://www.ti.com/lit/ml/mpds189/mpds189.pdf; ComponentLink4Description: URL Link1; ComponentLink4URL: Samples URL:http://www.ti.com/product/pth08080w#samples
footprint TI-EUF5_V (Module, 5-Leads, Body 15.24x12.7mm)
pins: 1 VI (power) "The positive input voltage power node to the module, which is referenced to common GND.", 2 GND (power) "This is the common ground connection for the VI and VO power connections. It is also the 0-Vdc reference for the Inhibit and VO Adjust control inputs.", 3 VO (power) "The regulated positive power output with respect to the GND node.", 4 VO ADJUST (in) "A 1% resistor must be connected between this pin and GND (pin 1) to set the output voltage of the module higher than 0.9 V. If left open-circuit, the output voltage defaults to this value. The temperature stability of the (See Datasheet)", 5 ~{INHIBIT} (in) "The Inhibit pin is an open-collector/drain-negative logic input that is referenced to GND. Applying a low-level ground signal to this input disables the module's output. When the Inhibit control is active, the input current (See Datasheet)"

## PTH08080WAS
designator U?
2.25 A, 4.5 to 18 V Input Wide Adjust Miniature Power Module, -40 to 85 degC, 5-pin Module (EUG5); Manufacturer: Texas Instruments; PartNumber: PTH08080WAS; Eco-Plan: TBD; Iout(Max)(A): 2.25; Regulated Outputs(#): 1; SubFamily: Non-Isolated POL; Vin(Max)(V): 18; Vin(Min)(V): 4.5; VO Adjustable: TRUE; Vout(Max)(V): 5.5; Vout(Min)(V): 0.9; DatasheetVersion: SLTS235C; PackageVersion: 4206428/A; PackageReference: EUG5; PackageDescription: 5-Pin Plastic Special Shape, Body 12.7 x 15.24 mm; Supplier 1: Digi-Key; Supplier Part Number 1: 296-19803-ND; Supplier 2: Farnell; Supplier Part Number 2: 1704193; Supplier 3: Newark; Supplier Part Number 3: 24K4726; Supplier 4: Mouser; Supplier Part Number 4: 595-PTH08080WAS; Mounting Technology: Surface Mount; ComponentLink1Description: Manufacturer URL; ComponentLink1URL: http://www.ti.com/; ComponentLink2Description: Datasheet; ComponentLink2URL: http://www.ti.com/general/docs/lit/getliterature.tsp?genericPartNumber=PTH08080W&fileType=pdf; ComponentLink3Description: Package Specification; ComponentLink3URL: http://www.ti.com/litv/pdf/mpds190; ComponentLink4Description: URL Link1; ComponentLink4URL: Samples URL:http://www.ti.com/product/pth08080w#samples
footprint TI-EUG5_V (Module, 5-Leads, Body 15.24x12.7mm)
pins: 1 VI (power) "The positive input voltage power node to the module, which is referenced to common GND.", 2 GND (power) "This is the common ground connection for the VI and VO power connections. It is also the 0-Vdc reference for the Inhibit and VO Adjust control inputs.", 3 VO (power) "The regulated positive power output with respect to the GND node.", 4 VO ADJUST (in) "A 1% resistor must be connected between this pin and GND (pin 1) to set the output voltage of the module higher than 0.9 V. If left open-circuit, the output voltage defaults to this value. The temperature stability of the (See Datasheet)", 5 ~{INHIBIT} (in) "The Inhibit pin is an open-collector/drain-negative logic input that is referenced to GND. Applying a low-level ground signal to this input disables the module's output. When the Inhibit control is active, the input current (See Datasheet)"

## PTH08080WAST
designator U?
2.25 A, 4.5 to 18 V Input Wide Adjust Miniature Power Module, -40 to 85 degC, 5-pin Module (EUG5); Manufacturer: Texas Instruments; PartNumber: PTH08080WAST; Eco-Plan: TBD; Iout(Max)(A): 2.25; Regulated Outputs(#): 1; SubFamily: Non-Isolated POL; Vin(Max)(V): 18; Vin(Min)(V): 4.5; VO Adjustable: TRUE; Vout(Max)(V): 5.5; Vout(Min)(V): 0.9; DatasheetVersion: SLTS235C; PackageVersion: 4206428/A; PackageReference: EUG5; PackageDescription: 5-Pin Plastic Special Shape, Body 12.7 x 15.24 mm; Supplier 1: Digi-Key; Supplier Part Number 1: PTH08080WAST-ND; Supplier 2: Newark; Supplier Part Number 2: 24K4727; Supplier 3: Mouser; Supplier Part Number 3: 595-PTH08080WAST; Mounting Technology: Surface Mount; ComponentLink1Description: Manufacturer URL; ComponentLink1URL: http://www.ti.com/; ComponentLink2Description: Datasheet; ComponentLink2URL: http://www.ti.com/general/docs/lit/getliterature.tsp?genericPartNumber=PTH08080W&fileType=pdf; ComponentLink3Description: Package Specification; ComponentLink3URL: http://www.ti.com/litv/pdf/mpds190; ComponentLink4Description: URL Link1; ComponentLink4URL: Samples URL:http://www.ti.com/product/pth08080w#samples
footprint TI-EUG5_V (Module, 5-Leads, Body 15.24x12.7mm)
pins: 1 VI (power) "The positive input voltage power node to the module, which is referenced to common GND.", 2 GND (power) "This is the common ground connection for the VI and VO power connections. It is also the 0-Vdc reference for the Inhibit and VO Adjust control inputs.", 3 VO (power) "The regulated positive power output with respect to the GND node.", 4 VO ADJUST (in) "A 1% resistor must be connected between this pin and GND (pin 1) to set the output voltage of the module higher than 0.9 V. If left open-circuit, the output voltage defaults to this value. The temperature stability of the (See Datasheet)", 5 ~{INHIBIT} (in) "The Inhibit pin is an open-collector/drain-negative logic input that is referenced to GND. Applying a low-level ground signal to this input disables the module's output. When the Inhibit control is active, the input current (See Datasheet)"

## PTH08080WAZ
designator U?
2.25 A, 4.5 to 18 V Input Wide Adjust Miniature Power Module, -40 to 85 degC, 5-pin Module (EUG5), Pb-Free (RoHS); Manufacturer: Texas Instruments; PartNumber: PTH08080WAZ; Iout(Max)(A): 2.25; Regulated Outputs(#): 1; SubFamily: Non-Isolated POL; Vin(Max)(V): 18; Vin(Min)(V): 4.5; VO Adjustable: TRUE; Vout(Max)(V): 5.5; Vout(Min)(V): 0.9; DatasheetVersion: SLTS235C; PackageVersion: 4206428/A; PackageReference: EUG5; PackageDescription: 5-Pin Plastic Special Shape, Body 12.7 x 15.24 mm; Supplier 1: Digi-Key; Supplier Part Number 1: 296-20433-ND; Supplier 2: Newark; Supplier Part Number 2: 37K0730; Supplier 3: Mouser; Supplier Part Number 3: 595-PTH08080WAZ; Eco-Plan: Pb-Free (RoHS); Mounting Technology: Surface Mount; ComponentLink1Description: Manufacturer URL; ComponentLink1URL: http://www.ti.com/; ComponentLink2Description: Datasheet; ComponentLink2URL: http://www.ti.com/general/docs/lit/getliterature.tsp?genericPartNumber=PTH08080W&fileType=pdf; ComponentLink3Description: Package Specification; ComponentLink3URL: http://www.ti.com/litv/pdf/mpds190; ComponentLink4Description: URL Link1; ComponentLink4URL: Samples URL:http://www.ti.com/product/pth08080w#samples
footprint TI-EUG5_V (Module, 5-Leads, Body 15.24x12.7mm)
pins: 1 VI (power) "The positive input voltage power node to the module, which is referenced to common GND.", 2 GND (power) "This is the common ground connection for the VI and VO power connections. It is also the 0-Vdc reference for the Inhibit and VO Adjust control inputs.", 3 VO (power) "The regulated positive power output with respect to the GND node.", 4 VO ADJUST (in) "A 1% resistor must be connected between this pin and GND (pin 1) to set the output voltage of the module higher than 0.9 V. If left open-circuit, the output voltage defaults to this value. The temperature stability of the (See Datasheet)", 5 ~{INHIBIT} (in) "The Inhibit pin is an open-collector/drain-negative logic input that is referenced to GND. Applying a low-level ground signal to this input disables the module's output. When the Inhibit control is active, the input current (See Datasheet)"